# Altium footprint library TPS259814LRPWR.PcbLib: 1 footprints
Each footprint in its own frame and in the unit in brackets; x right, y up, seen from the top. Pads: shape width x height; smd on the part's side, far side on the other; paste and mask are expansions set on the pad; w line width, h text height; cw(c..) or ccw(c..) is an arc to the next point about the centre after c.
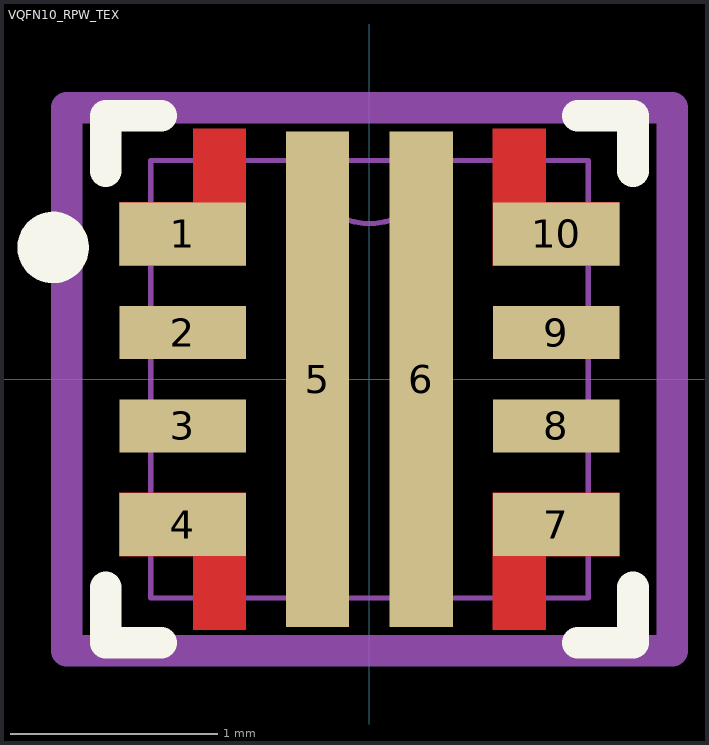
[diagram p0: the footprint, top view; thin cyan lines are the x and y axes]

## VQFN10_RPW_TEX [mil]
pads (10):
  rect 24x12 smd paste-12 mask-12: 1(-35.43,27.56) 4(-35.43,-27.56) 7(35.43,-27.56) 10(35.43,27.56)
  rect 24x10 smd paste+0 mask+0: 2(-35.43,8.86) 3(-35.43,-8.86) 8(35.43,-8.86) 9(35.43,8.86)
  rect 12x94 smd paste-47 mask-47: 5(-9.84,0) 6(9.84,0)
Top Layer:
  region: 33.43,47.56 23.43,47.56 23.43,21.56 47.43,21.56 47.43,33.56 33.43,33.56
  region: 47.43,-21.56 23.43,-21.56 23.43,-47.56 33.43,-47.56 33.43,-33.56 47.43,-33.56
  region: -23.43,-47.56 -23.43,-21.56 -47.43,-21.56 -47.43,-33.56 -33.43,-33.56 -33.43,-47.56
  region: -33.43,47.56 -23.43,47.56 -23.43,21.56 -47.43,21.56 -47.43,33.56 -33.43,33.56
Top Overlay:
  circle w7: c-60,25 r3.28
  lines w6: -50,-39.5 -50,-50 -39.5,-50 ; -50,39.5 -50,50 -39.5,50 ; 39.5,-50 50,-50 50,-39.5 ; 39.5,50 50,50 50,39.5
Top Paste:
  region: 33.43,47.56 23.43,47.56 23.43,21.56 47.43,21.56 47.43,33.56 33.43,33.56
  region: -23.43,-47.56 -23.43,-21.56 -47.43,-21.56 -47.43,-33.56 -33.43,-33.56 -33.43,-47.56
  region: 47.43,-21.56 23.43,-21.56 23.43,-47.56 33.43,-47.56 33.43,-33.56 47.43,-33.56
  region: -33.43,47.56 -23.43,47.56 -23.43,21.56 -47.43,21.56 -47.43,33.56 -33.43,33.56
Top Solder:
  region: -33.43,47.56 -23.43,47.56 -23.43,21.56 -47.43,21.56 -47.43,33.56 -33.43,33.56
  region: 33.43,47.56 23.43,47.56 23.43,21.56 47.43,21.56 47.43,33.56 33.43,33.56
  region: 47.43,-21.56 23.43,-21.56 23.43,-47.56 33.43,-47.56 33.43,-33.56 47.43,-33.56
  region: -23.43,-47.56 -23.43,-21.56 -47.43,-21.56 -47.43,-33.56 -33.43,-33.56 -33.43,-47.56
Mechanical 13:
  lines w1: -12,41.5 ccw(c0,41.5) 12,41.5 ; -41.5,-41.5 -41.5,41.5 41.5,41.5 41.5,-41.5 -41.5,-41.5
Mechanical 15:
  lines w6: -57.43,-51.5 -57.43,51.5 57.43,51.5 57.43,-51.5 -57.43,-51.5
3D body "RPW0010A.stp": height 39.37, standoff 0, extent -39.37,-39.37 39.37,39.37